# Altium footprint library White connector.PcbLib: 1 footprints
Each footprint in its own frame and in the unit in brackets; x right, y up, seen from the top. Pads: shape width x height; smd on the part's side, far side on the other; paste and mask are expansions set on the pad; w line width, h text height; cw(c..) or ccw(c..) is an arc to the next point about the centre after c.
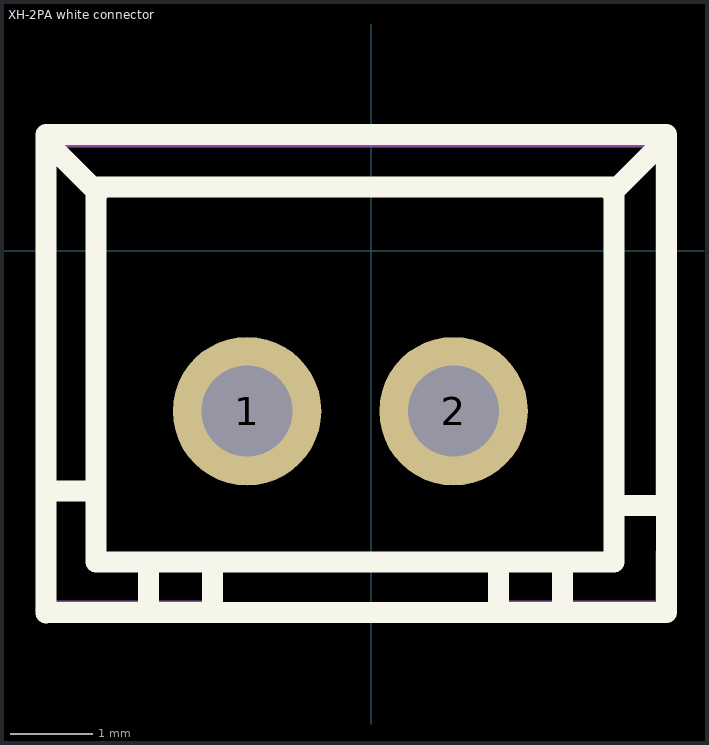
[diagram p0: the footprint, top view; thin cyan lines are the x and y axes]

## XH-2PA white connector [mm]
pads (2):
  round 1.8 hole 1.1 paste-2539.97 mask+0.051: 1(-1.505,-1.945) 2(0.997,-1.945)
Top Overlay:
  lines w0.254: -3.943,-4.392 -3.943,1.408 3.557,1.408 ; -3.943,-2.91 -3.359,-2.91 ; -3.925,-4.383 3.575,-4.383 3.575,1.408 ; -3.918,1.382 -3.918,1.306 -3.308,0.697 ; -3.334,0.773 2.94,0.773 2.94,-3.774 -3.334,-3.774 -3.334,0.747 -3.308,0.747 ; -2.699,-4.358 -2.699,-3.774 ; -1.924,-4.371 -1.924,-3.787 ; 1.543,-4.358 1.543,-3.774 ; 2.318,-4.371 2.318,-3.787 ; 2.915,0.697 3.524,1.306 3.524,1.382 ; 2.965,-3.088 3.55,-3.088
Mechanical 6:
  region: 3.646,-3.645 3.646,-4.445 1.446,-4.445 1.446,-4.245 3.446,-4.245 3.446,-3.645
  region: -4.054,-3.645 -4.054,-4.445 -1.854,-4.445 -1.854,-4.245 -3.854,-4.245 -3.854,-3.645
  region: 3.646,-3.145 3.546,-3.145 3.446,-3.145 3.446,1.255 -3.754,1.255 -3.854,1.255 -3.854,-3.145 -4.054,-3.145 -4.054,1.455 3.646,1.455
Mechanical 15:
  region: -1.825,-1.625 -1.185,-1.625 -1.185,-2.265 -1.825,-2.265
  region: 0.677,-1.625 1.317,-1.625 1.317,-2.265 0.677,-2.265
  region: -3.944,-4.345 -3.944,-4.32 -3.979,-4.285 -4.029,-4.285 -4.064,-4.32 -4.064,-4.345 -4.064,-4.37 -4.029,-4.405 -3.979,-4.405 -3.944,-4.37 -3.944,-4.345
  lines w0.051: -4.004,-4.345 -4.004,1.455 3.496,1.455 3.496,-4.345 -4.004,-4.345